# Altium footprint library XN04312Rs232LevelShifter.PcbLib: 1 footprints
Each footprint in its own frame and in the unit in brackets; x right, y up, seen from the top. Pads: shape width x height; smd on the part's side, far side on the other; paste and mask are expansions set on the pad; w line width, h text height; cw(c..) or ccw(c..) is an arc to the next point about the centre after c.
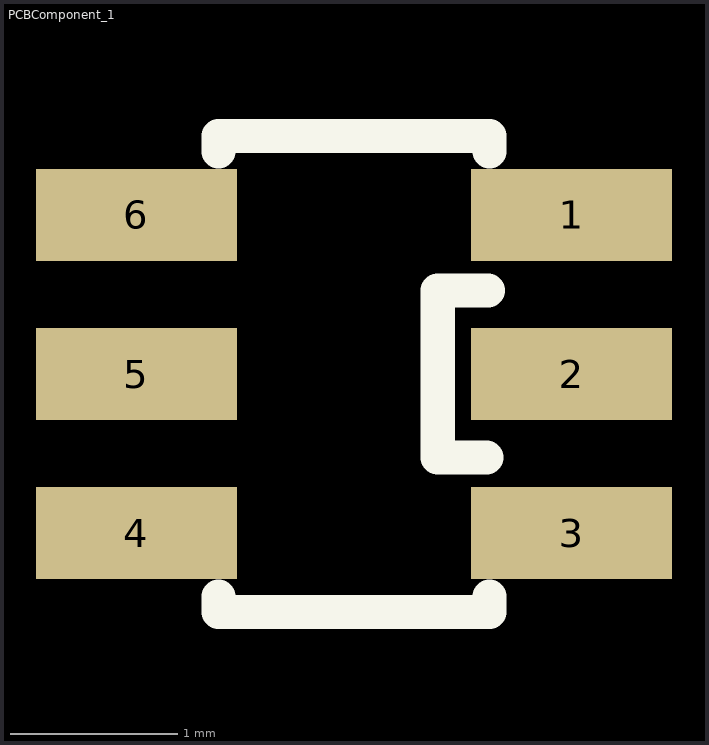
[diagram p0: the footprint, top view; thin cyan lines are the x and y axes]

## PCBComponent_1 [mm]
pads (6):
  rect 1.2x0.55 smd: 1(-1042.513,-888.812) 2(-1042.513,-889.762) 3(-1042.513,-890.712) 4(-1045.113,-890.712) 5(-1045.113,-889.762) 6(-1045.113,-888.812)
Top Overlay:
  lines w0.203: -1044.623,-891.09 -1044.623,-891.184 -1043.003,-891.184 -1043.003,-891.09 ; -1044.623,-888.434 -1044.623,-888.34 -1043.003,-888.34 -1043.003,-888.434 ; -1043.023,-890.262 -1043.313,-890.262 -1043.313,-889.262 -1043.013,-889.262